# Altium schematic symbol library Resistor.SchLib: 47 symbols
Pins are listed as number, name and electrical type; pins without a type are passive.

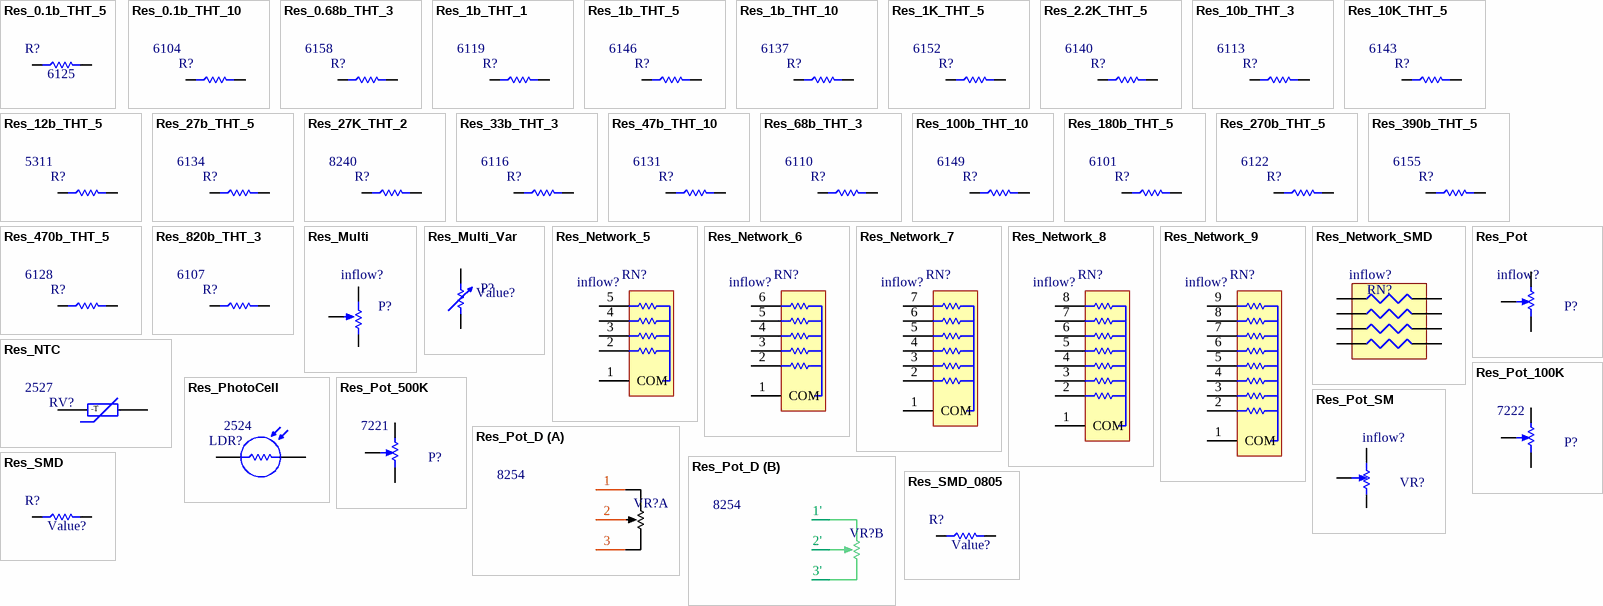
[diagram p0: symbols Res_0.1b_THT_5 to Res_SMD_0805]

## Res_0.1b_THT_5
designator R?, comment Inflow: 6125  (hidden comment: 0.1b)
Resistor; Rating: Rating?; Validation: NT; Package: Dip; Type: 5W; Value: 0.1b
footprint Res-(5/1)-Stand
footprint Res 5W
pins: 1, 2

## Res_0.1b_THT_10
designator R?, comment Inflow: 6104  (hidden comment: 0.1b)
Resistor; Rating: Rating?; Validation: NT; Package: Dip; Type: 10W; Value: 0.1b
footprint Res  10W
pins: 1, 2

## Res_0.68b_THT_3
designator R?, comment Inflow: 6158  (hidden comment: 0.68b)
Resistor; Rating: Rating?; Validation: NT; Package: Package?; Type: 3W; Value: 0.68b
footprint Axial 3W 9_0mm (Designer Abbas Basereh)
pins: 1, 2

## Res_1b_THT_1
designator R?, comment Inflow: 6119  (hidden comment: 1b)
Resistor; Rating: Rating?; Validation: NT; Package: Package?; Type: 1W; Value: 1b
footprint Res-(1/1)
footprint Axial 1W  7_0mm (Designer Abbas Basereh)
pins: 1, 2

## Res_1b_THT_5
designator R?, comment Inflow: 6146  (hidden comment: 1b)
Resistor; Rating: Rating?; Validation: NT; Package: Dip; Type: 5W; Value: 1b
footprint Res-(5/1)-Stand
footprint Res 5W
pins: 1, 2

## Res_1b_THT_10
designator R?, comment Inflow: 6137  (hidden comment: 1b)
Resistor; Rating: Rating?; Validation: NT; Package: Dip; Type: 10W; Value: 1b
footprint Res  10W
pins: 1, 2

## Res_1K_THT_5
designator R?, comment Inflow: 6152  (hidden comment: 1K)
Resistor; Rating: Rating?; Validation: NT; Package: Dip; Type: 5W; Value: 1K
footprint Res-(5/1)-Stand
footprint Res 5W
pins: 1, 2

## Res_2.2K_THT_5
designator R?, comment Inflow: 6140  (hidden comment: 2.2K)
Resistor; Rating: Rating?; Validation: NT; Package: Dip; Type: 5W; Value: 2.2K
footprint Res-(5/1)-Stand
footprint Res 5W
pins: 1, 2

## Res_10b_THT_3
designator R?, comment Inflow: 6113  (hidden comment: 10b)
Resistor; Rating: Rating?; Validation: NT; Package: Package?; Type: 3W; Value: 10b
footprint Axial 3W 9_0mm (Designer Abbas Basereh)
pins: 1, 2

## Res_10K_THT_5
designator R?, comment Inflow: 6143  (hidden comment: 10K)
Resistor; Rating: Rating?; Validation: NT; Package: Dip; Type: 5W; Value: 10K
footprint Res-(5/1)-Stand
footprint Res 5W
pins: 1, 2

## Res_12b_THT_5
designator R?, comment Inflow: 5311  (hidden comment: 12b)
Resistor; Rating: Rating?; Validation: NT; Package: Dip; Type: 5W; Value: 12b
footprint Res-(5/1)-Stand
footprint Res 5W
pins: 1, 2

## Res_27b_THT_5
designator R?, comment Inflow: 6134  (hidden comment: 27b)
Resistor; Rating: Rating?; Validation: NT; Package: Dip; Type: 5W; Value: 27b
footprint Res-(5/1)-Stand
footprint Res 5W
pins: 1, 2

## Res_27K_THT_2
designator R?, comment Inflow: 8240  (hidden comment: 27K)
Resistor; Rating: Rating?; Validation: NT; Package: Package?; Type: 2W; Value: 27K
footprint Res-(2/1)
footprint Axial 2W 8_0mm (Designer Abbas Basereh)
pins: 1, 2

## Res_33b_THT_3
designator R?, comment Inflow: 6116  (hidden comment: 33b)
Resistor; Rating: Rating?; Validation: NT; Package: Package?; Type: 3W; Value: 33b
footprint Axial 3W 9_0mm (Designer Abbas Basereh)
pins: 1, 2

## Res_47b_THT_10
designator R?, comment Inflow: 6131  (hidden comment: 47b)
Resistor; Rating: Rating?; Validation: NT; Package: Dip; Type: 10W; Value: 47b
footprint Res  10W
pins: 1, 2

## Res_68b_THT_3
designator R?, comment Inflow: 6110  (hidden comment: 68b)
Resistor; Rating: Rating?; Validation: NT; Package: Package?; Type: 3W; Value: 68b
footprint Axial 3W 9_0mm (Designer Abbas Basereh)
pins: 1, 2

## Res_100b_THT_10
designator R?, comment Inflow: 6149  (hidden comment: 100b)
Resistor; Rating: Rating?; Validation: NT; Package: Dip; Type: 10W; Value: 100b
footprint Res  10W
pins: 1, 2

## Res_180b_THT_5
designator R?, comment Inflow: 6101  (hidden comment: 180b)
Resistor; Rating: Rating?; Validation: NT; Package: Dip; Type: 5W; Value: 180b
footprint Res-(5/1)-Stand
footprint Res 5W
pins: 1, 2

## Res_270b_THT_5
designator R?, comment Inflow: 6122  (hidden comment: 270b)
Resistor; Rating: Rating?; Validation: NT; Package: Dip; Type: 5W; Value: 270b
footprint Res-(5/1)-Stand
footprint Res 5W
pins: 1, 2

## Res_390b_THT_5
designator R?, comment Inflow: 6155  (hidden comment: 390b)
Resistor; Rating: Rating?; Validation: NT; Package: Dip; Type: 5W; Value: 390b
footprint Res-(5/1)-Stand
footprint Res 5W
pins: 1, 2

## Res_470b_THT_5
designator R?, comment Inflow: 6128  (hidden comment: 470b)
Resistor; Rating: Rating?; Validation: NT; Package: Dip; Type: 5W; Value: 470b
footprint Res-(5/1)-Stand
footprint Res 5W
pins: 1, 2

## Res_820b_THT_3
designator R?, comment Inflow: 6107  (hidden comment: 820b)
Resistor; Rating: Rating?; Validation: NT; Package: Package?; Type: 3W; Value: 820b
footprint Axial 3W 9_0mm (Designer Abbas Basereh)
pins: 1, 2

## Res_Multi
designator P?, comment Inflow: inflow?  (hidden comment: Value?)
Multi Turn; Rating: Rating?; Validation: Valid; Package: Package?; Type: Type?; Value: Value?
footprint POT '
footprint POT
footprint POT"
footprint Multi turn 01 (Stand Multi Turn - Turning CW Increase P1~2 Resistor)
footprint Pot 00
pins: 1 3, 2, 3 1

## Res_Multi_Var
designator P?, comment Value?
Multi Turn; Rating: 0.25W; Inflow: inflow?; Validation: Valid; Package: Dip; Type: MultiTurn; Value: Value?
footprint Multi Turn 01_Var (Stand Multi Turn - Turning CW Increase P1~2 Resistor)
pins: 1, 2

## Res_Network_5
designator RN?, comment Inflow: inflow?  (hidden comment: Value?)
Array resistor x5; Rating: Rating?; Validation: NT; Package: Package?; Type: Type?; Value: Value?
footprint Resistor Array 5N (Resistor Networks, P2.54mm)
pins: 1 COM, 2 R1, 3 R2, 4 R3, 5 R4

## Res_Network_6
designator RN?, comment Inflow: inflow?  (hidden comment: Value?)
Array resistor x6; Rating: Rating?; Validation: NT; Package: Package?; Type: Type?; Value: Value?
footprint Resistor Array 6N (Resistor Networks, P2.54mm)
pins: 1 COM, 2 R1, 3 R2, 4 R3, 5 R4, 6 R5

## Res_Network_7
designator RN?, comment Inflow: inflow?  (hidden comment: Value?)
Array resistor x7; Rating: Rating?; Validation: NT; Package: Package?; Type: Type?; Value: Value?
footprint Resistor Array 7N (Resistor Networks, P2.54mm)
pins: 1 COM, 2 R1, 3 R2, 4 R3, 5 R4, 6 R5, 7 R6

## Res_Network_8
designator RN?, comment Inflow: inflow?  (hidden comment: Value?)
Array resistor x8; Rating: Rating?; Validation: Valid; Package: Package?; Type: Type?; Value: Value?
footprint Resistor Array 8N (Resistor Networks, P2.54mm)
pins: 1 COM, 2 R1, 3 R2, 4 R3, 5 R4, 6 R5, 7 R6, 8 R7

## Res_Network_9
designator RN?, comment Inflow: inflow?  (hidden comment: Value?)
Array resistor x9; Rating: Rating?; Validation: Valid; Package: Package?; Type: Type?; Value: Value?
footprint Resistor Array 9N (Resistor Networks, P2.54mm)
pins: 1 COM, 2 R1, 3 R2, 4 R3, 5 R4, 6 R5, 7 R6, 8 R7, 9 R8

## Res_Network_SMD
designator RN?, comment Inflow: inflow?  (hidden comment: Value?)
SMD Resistor Arrays; Rating: Rating?; Validation: NT; Package: Package?; Type: Type?; Value: Value?
footprint RN8-A
pins: 1 R1, 2 R2, 3 R3, 4 R4, 5 R4, 6 R3, 7 R2, 8 R1

## Res_NTC
designator RV?, comment Inflow: 2527  (hidden comment: 10K)
NTC; Rating: Rating?; Validation: NT; Package: Package?; Type: Type?; Value: 10K
footprint 05D XXX (MOV-05DxxxK Metal Oxide Varistors (MOVs) are 5 mm-Design:Abbas Basereh)
pins: 1, 2
text: -T

## Res_PhotoCell
designator LDR?, comment Inflow: 2524  (hidden comment: Value?)
Photo Cell- Variable Resistor With Light; Rating: Rating?; Validation: Valid; Package: Package?; Type: Type?; Value: Value?
footprint PhotoCell
pins: 1, 2

## Res_Pot
designator P?, comment Inflow: inflow?  (hidden comment: Value?)
Potentiometer; Rating: Rating?; Validation: Valid; Package: Package?; Type: Type?; Value: Value?
footprint 3RP/1610N
footprint 3296P
footprint 3296W
footprint 3296X
footprint 3296Y
footprint 3296Z
footprint 3306F
footprint EVUF
footprint SMD_3223G
footprint SMD_3223J
footprint SMD_3223W
footprint SMD_PVG3A
footprint SMD_PVG5H
footprint SMD_PVZ3A
footprint SMD_SM-42/43A
footprint SMD_SM-42/43B
footprint SMD_SM-42/43W
footprint SMD_SM-42/43X
footprint 3306P
footprint 3306W
footprint 3306K
footprint Setpoint pot
footprint POT Panasonic EVM (Panasonic EVM3Y 3.45mm x 3.10mm x 1.55mm)
footprint POT PANASONIC EVM2W (Panasonic EVM2W 2.75mm x 2.20mm x 1.05mm)
footprint Vol
footprint Pot (Voloume)
footprint POT_WH148 (Chip Variable Resistor, 3-Leads, Body 5x5x5mm)
pins: 1 CCW, 2 WIPER, 3 CW
3 alternate drawings of the same symbol

## Res_Pot_100K
designator P?, comment Inflow: 7222  (hidden comment: 100K)
Potentiometer; Rating: Rating?; Validation: NT; Package: Package?; Type: Type?; Value: 100K
footprint 3306F
pins: 1 CCW, 2 WIPER, 3 CW
3 alternate drawings of the same symbol

## Res_Pot_500K
designator P?, comment Inflow: 7221  (hidden comment: 500K)
Potentiometer; Rating: Rating?; Validation: NT; Package: Package?; Type: Type?; Value: 500K
footprint 3306F
pins: 1 CCW, 2 WIPER, 3 CW
3 alternate drawings of the same symbol

## Res_Pot_D
designator VR?, comment Inflow: 8254  (hidden comment: 10K)
Volume Double; Rating: Rating?; Validation: NT; Package: Package?; Type: Type?; Value: 10K
footprint POT11
footprint 3RP/1610G
footprint DIP_POT_DUAL (POT-R0911G-A1)
part A pins: 1, 2, 3
part B pins: 1', 2', 3'

## Res_Pot_SM
designator VR?, comment Inflow: inflow?  (hidden comment: Value?)
Square Trimming Potentiometer; Rating: Rating?; Validation: NT; Package: Package?; Type: Type?; Value: Value?
footprint POT4MM-Small Pot (Square Trimming Potentiometer)
footprint POT4MM-Triming (Square Trimming Potentiometer)
pins: CCW -, CW +, W
1 alternate drawing of the same symbol

## Res_SMD
designator R?, comment Value?
Resistor; Inflow: inflow?; Rating: Rating?; Validation: Valid; Package: Package?; Type: 10%; Value: Value?
footprint RES 0201 (0603X03L) (Chip Resistor, 2-Leads, Body 0.6x0.3mm, IPC High Density (0.05 W))
footprint RES 0402 (1005X04L) (Chip Resistor, 2-Leads, Body 1.0x0.5mm, IPC High Density _ (0.031/0.063 W))
footprint RES 0603 (1608X06L) (Chip Resistor, 2-Leads, Body 1.6x0.8mm, IPC High Density _ (0.063W))
footprint RES 0805 (2012X06L) (Chip Resistor, 2-Leads, Body 2.0x1.3mm, IPC High Density _ (0.100 W))
footprint RES 1206 (3216X08L) (Chip Resistor, 2-Leads, Body 3.2x1.6mm, IPC High Density _ (0.125 W))
footprint RES 1210 (3226X07L) (Chip Resistor, 2-Leads, Body 3.2x2.6mm, IPC High Density _ (0.250 W))
footprint RES 1217 (3042X09L) (Chip Resistor, 2-Leads, Body 3.0x4.2mm, IPC High Density _ (0.250 W))
footprint RES 2010 (5026X08L) (Chip Resistor, 2-Leads, Body 5.0x2.6mm, IPC High Density _ (0.250 W))
footprint RES 2020 (5151X09L) (Chip Resistor, 2-Leads, Body 5.1x5.1mm, IPC High Density _ (0.5 W))
footprint RES 2045 (50115X09L) (Chip Resistor, 2-Leads, Body 5.0x11.5mm, IPC High Density _ (1.0 W))
footprint RES 2512 (6331X07L) (Chip Resistor, 2-Leads, Body 6.3x3.1mm, IPC High Density _ (0.500 W))
pins: 1, 2

## Res_SMD_0805
designator R?, comment Value?
Resistor; Inflow: inflow?; Rating: 0.125W; Validation: Valid; Package: 0805; Type: 10%; Value: Value?
footprint RES 0805 (2012X06L) (Chip Resistor, 2-Leads, Body 2.0x1.3mm, IPC High Density _ (0.100 W))
pins: 1, 2

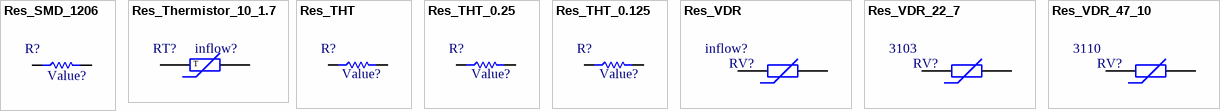
[diagram p1: symbols Res_SMD_1206 to Res_VDR_47_10]

## Res_SMD_1206
designator R?, comment Value?
Resistor; Inflow: inflow?; Rating: 0.25W; Validation: Valid; Package: 1206; Type: 10%; Value: Value?
footprint RES 1206 (3216X08L) (Chip Resistor, 2-Leads, Body 3.2x1.6mm, IPC High Density _ (0.125 W))
pins: 1, 2

## Res_Thermistor_10_1.7
designator RT?, comment Inflow: inflow?  (hidden comment: 10b)
Inrush current limiter; Rating: 1.7A; Validation: NT; Package: Package?; Type: Type?; Value: 10b
footprint 10D XXX (MOV-10DxxxK Metal Oxide Varistors (MOVs) are 10 mm-Design:Abbas Basereh)
pins: 1, 2
text: T

## Res_THT
designator R?, comment Value?
Resistor; Inflow: inflow?; Rating: 0.25W; Validation: Valid; Package: Dip; Type: 10%; Value: Value?
footprint Res-(1/8)
footprint Res-(1/4)
footprint Res-(1/2)
footprint Res-(1/1)
footprint Res-(2/1)
footprint Res-(1/4)-Stand
footprint Res-(5/1)-Stand
footprint Res 5W
footprint Res  10W
footprint Axial 3W 9_0mm (Designer Abbas Basereh)
footprint Axial 2W 8_0mm (Designer Abbas Basereh)
footprint Axial 1W  7_0mm (Designer Abbas Basereh)
footprint Axial 0_5W 5_0mm (Designer Abbas Basereh)
footprint Axial 0_25w_2_54mm (Designer Abbas Basereh)
footprint Axial 0_25 W, 0_4 IN LEAD PITCH (Designer Abbas Basereh)
pins: 1, 2

## Res_THT_0.25
designator R?, comment Value?
Resistor; Inflow: inflow?; Rating: 0.25W; Validation: Valid; Package: Package?; Type: 10%; Value: Value?
footprint Res-(1/8)
footprint Res-(1/4)
footprint Res-(1/4)-Stand
pins: 1, 2

## Res_THT_0.125
designator R?, comment Value?
Resistor; Inflow: inflow?; Rating: 0.125W; Validation: NT; Type: 10%; Package: Dip; Value: Value?
footprint Res-(1/8)
pins: 1, 2

## Res_VDR
designator RV?, comment Inflow: inflow?  (hidden comment: Value?)
Varistor; Rating: Rating?; Validation: Valid; Package: Package?; Type: Varistor; Value: Value?
footprint 05D XXX (MOV-05DxxxK Metal Oxide Varistors (MOVs) are 5 mm-Design:Abbas Basereh)
footprint 07D XXX (MOV-07DxxxK Metal Oxide Varistors (MOVs) are 7 mm-Design:Abbas Basereh)
footprint 10D XXX (MOV-10DxxxK Metal Oxide Varistors (MOVs) are 10 mm-Design:Abbas Basereh)
footprint 14D XXX (MOV-14DxxxK Metal Oxide Varistors (MOVs) are 14 mm-Design:Abbas Basereh)
footprint 20D XXX (MOV-20DxxxK Metal Oxide Varistors (MOVs) are 20 mm-Design:Abbas Basereh)
footprint 23D XXX (MOV-23DxxxK Metal Oxide Varistors (MOVs) are 23 mm-Design:Abbas Basereh)
pins: 1, 2

## Res_VDR_22_7
designator RV?, comment Inflow: 3103  (hidden comment: 22V,)
Varistor; Rating: 7mm; Validation: NT; Package: Dip; Type: Varistor; Value: 22V,
footprint 07D XXX (MOV-07DxxxK Metal Oxide Varistors (MOVs) are 7 mm-Design:Abbas Basereh)
pins: 1, 2

## Res_VDR_47_10
designator RV?, comment Inflow: 3110  (hidden comment: 47V)
Varistor; Rating: 10mm; Validation: NT; Package: Dip; Type: Varistor; Value: 47V
footprint 10D XXX (MOV-10DxxxK Metal Oxide Varistors (MOVs) are 10 mm-Design:Abbas Basereh)
pins: 1, 2